# Altium footprint library PL04_22F.PcbLib: 63 footprints (part 2 of 4)
Each footprint in its own frame and in the unit in brackets; x right, y up, seen from the top. Pads: shape width x height; smd on the part's side, far side on the other; paste and mask are expansions set on the pad; w line width, h text height; cw(c..) or ccw(c..) is an arc to the next point about the centre after c.
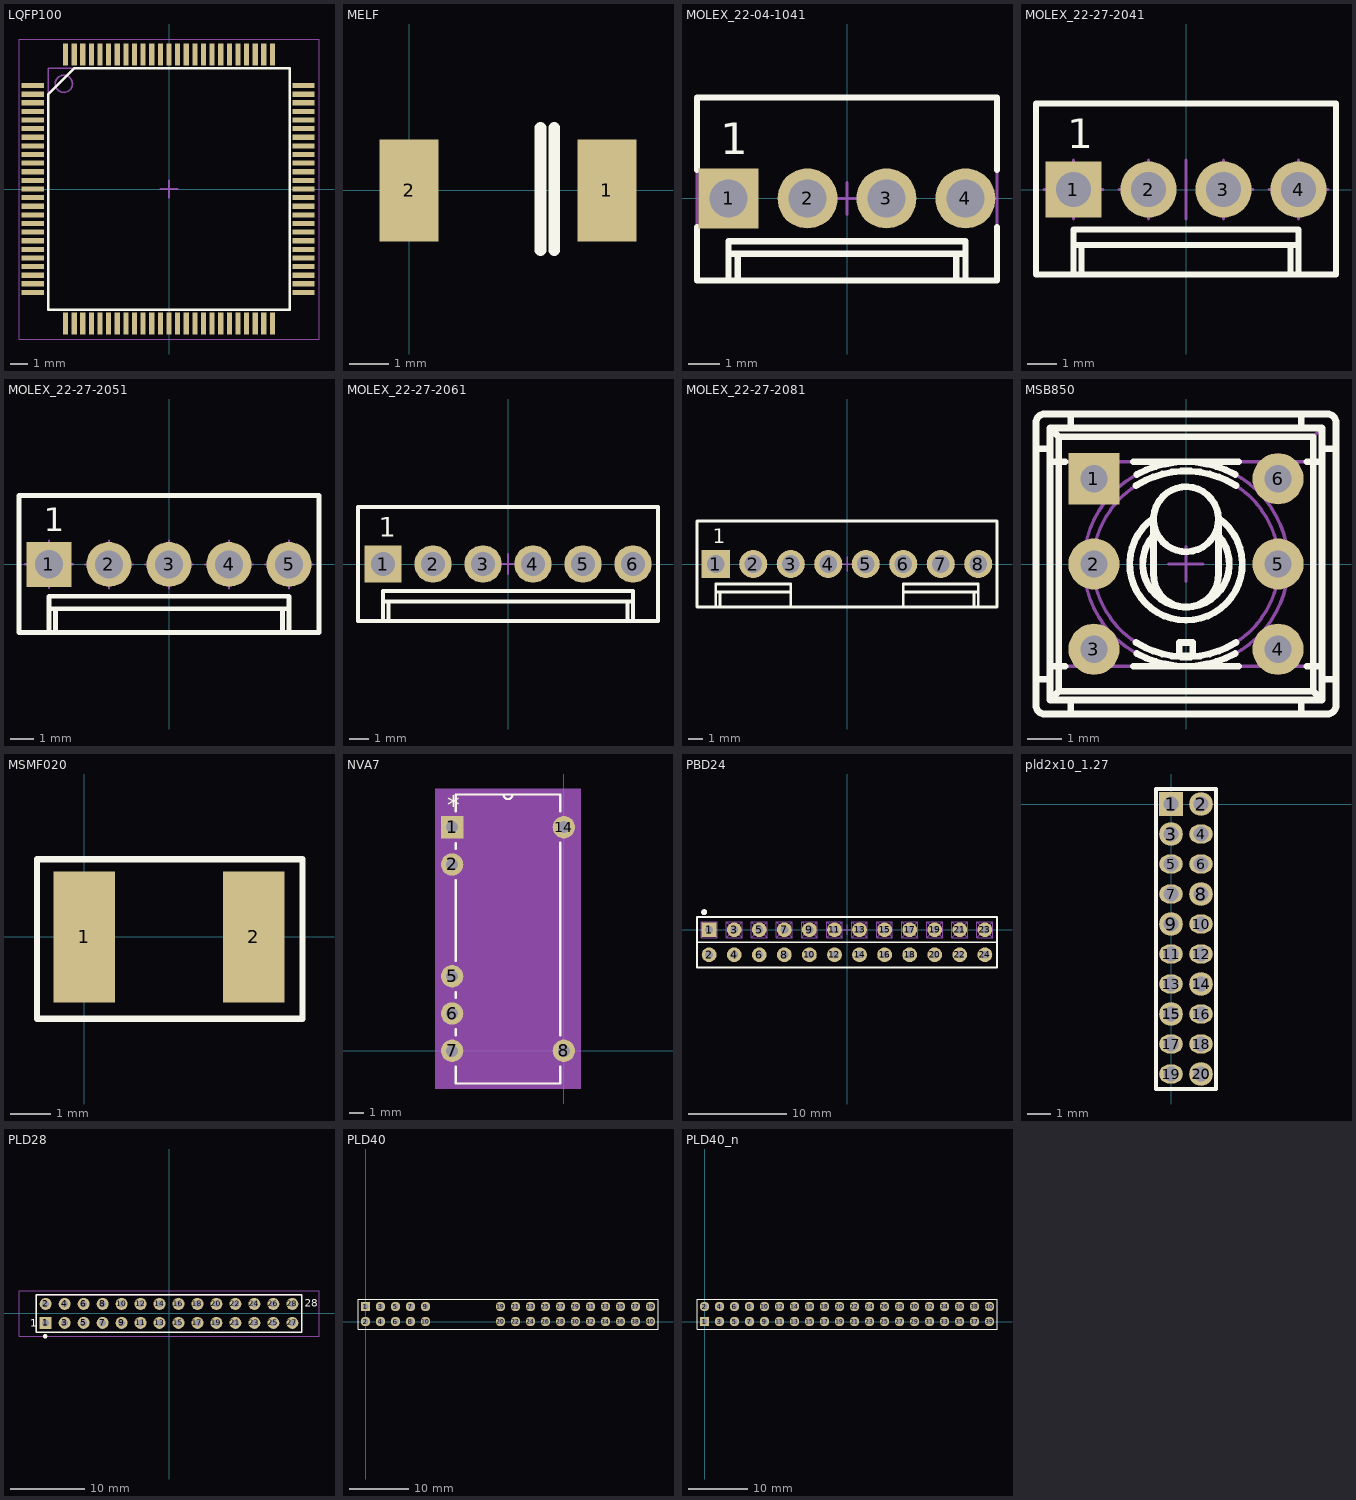
[diagram p1: the footprints below, top view; thin cyan lines are the x and y axes]

## LQFP100 [mm] "TSQFP, 100-Leads, Body 14,00x14,00mm, Pitch 0,50mm, IPC Medium Density"
height 1.6
pads (100):
  rect 1.3x0.3 smd: 1(-7.9,6) 2(-7.9,5.5) 3(-7.9,5) 4(-7.9,4.5) 5(-7.9,4) 6(-7.9,3.5) 7(-7.9,3) 8(-7.9,2.5) 9(-7.9,2) 10(-7.9,1.5) 11(-7.9,1) 12(-7.9,0.5) 13(-7.9,0) 14(-7.9,-0.5) 15(-7.9,-1) 16(-7.9,-1.5) 17(-7.9,-2) 18(-7.9,-2.5) 19(-7.9,-3) 20(-7.9,-3.5) 21(-7.9,-4) 22(-7.9,-4.5) 23(-7.9,-5) 24(-7.9,-5.5) 25(-7.9,-6) 51(7.8,-6) 52(7.8,-5.5) 53(7.8,-5) 54(7.8,-4.5) 55(7.8,-4) 56(7.8,-3.5) 57(7.8,-3) 58(7.8,-2.5) 59(7.8,-2) 60(7.8,-1.5) 61(7.8,-1) 62(7.8,-0.5) 63(7.8,0) 64(7.8,0.5) 65(7.8,1) 66(7.8,1.5) 67(7.8,2) 68(7.8,2.5) 69(7.8,3) 70(7.8,3.5) 71(7.8,4) 72(7.8,4.5) 73(7.8,5) 74(7.8,5.5) 75(7.8,6)
  rect 0.3x1.3 smd: 26(-6,-7.8) 27(-5.5,-7.8) 28(-5,-7.8) 29(-4.5,-7.8) 30(-4,-7.8) 31(-3.5,-7.8) 32(-3,-7.8) 33(-2.5,-7.8) 34(-2,-7.8) 35(-1.5,-7.8) 36(-1,-7.8) 37(-0.5,-7.8) 38(0,-7.8) 39(0.5,-7.8) 40(1,-7.8) 41(1.5,-7.8) 42(2,-7.8) 43(2.5,-7.8) 44(3,-7.8) 45(3.5,-7.8) 46(4,-7.8) 47(4.5,-7.8) 48(5,-7.8) 49(5.5,-7.8) 50(6,-7.8) 76(6,7.8) 77(5.5,7.8) 78(5,7.8) 79(4.5,7.8) 80(4,7.8) 81(3.5,7.8) 82(3,7.8) 83(2.5,7.8) 84(2,7.8) 85(1.5,7.8) 86(1,7.8) 87(0.5,7.8) 88(0,7.8) 89(-0.5,7.8) 90(-1,7.8) 91(-1.5,7.8) 92(-2,7.8) 93(-2.5,7.8) 94(-3,7.8) 95(-3.5,7.8) 96(-4,7.8) 97(-4.5,7.8) 98(-5,7.8) 99(-5.5,7.8) 100(-6,7.8)
Top Overlay:
  lines w0.15: -7,-7 -7,5.5 -5.5,7 7,7 7,-7 -7,-7
Mechanical 13:
  circle w0.1: c-6.1,6.1 r0.5
  lines w0.1: -7,-7 7,-7 7,7 -7,7 -7,-7
Mechanical 15:
  lines w0.05: -8.7,-8.7 8.7,-8.7 8.7,8.7 -8.7,8.7 -8.7,-8.7
  lines w0.1: -0.5,0 0.5,0 ; 0,-0.5 0,0.5
3D body: height 1.6, standoff 0.25, extent -7,-7 7,7

## MELF [mm]
pads (2):
  rect 1.5x2.6 smd: 1(5.04,0) 2(0,0)
Top Overlay:
  lines w0.3: 3.35,-1.525 3.35,1.6 ; 3.7,-1.525 3.7,1.6
3D body "DIOMELF5025N.stp": height 2.67, standoff 0, extent -0.08,-1.335 5.12,1.335

## MOLEX_22-04-1041 [mm] "2.5mm (.100\") Pitch KK® Header, Single Row, Vertical, 4 Circuits"
height 11.7
pads (4):
  rect 1.9x1.9 hole 1.2: 1(-3.75,0)
  round 1.9 hole 1.2: 2(-1.25,0) 3(1.25,0) 4(3.75,0)
Top Overlay:
  lines w0.2: -4.75,-0.907 -4.75,-2.6 4.75,-2.6 4.75,-0.907 ; -4.75,0.907 -4.75,3.2 4.75,3.2 4.75,0.907 ; -3.75,-2.6 -3.75,-1.35 3.75,-1.35 3.75,-2.6 ; -3.75,-1.75 3.75,-1.75 ; -3.459,-2.6 -3.459,-1.75 ; 3.459,-2.6 3.459,-1.75
  text "1" at -4.02,1.395 h1
Mechanical 8:
  lines w0.1: -4.25,0 -3.75,0 ; -3.75,-0.5 -3.75,0 ; -3.75,0.5 -3.75,0 ; -3.25,0 -3.75,0 ; -1.75,0 -1.25,0 ; -1.25,-0.5 -1.25,0 ; -1.25,0.5 -1.25,0 ; -0.75,0 -1.25,0 ; -0.5,0 0,0 ; 0,-0.5 0,0 ; 0,0.5 0,0 ; 0.5,0 0,0 ; 0.75,0 1.25,0 ; 1.25,-0.5 1.25,0 ; 1.25,0.5 1.25,0 ; 1.75,0 1.25,0 ; 3.25,0 3.75,0 ; 3.75,-0.5 3.75,0 ; 3.75,0.5 3.75,0 ; 4.25,0 3.75,0
Mechanical 14:
  lines w0.1: -3.75,-2.6 -3.75,-1.35 3.75,-1.35 3.75,-2.6 ; -3.75,-1.75 3.75,-1.75 ; -3.459,-2.6 -3.459,-1.75 ; 3.459,-2.6 3.459,-1.75 ; -4.75,-2.6 4.75,-2.6 4.75,3.2 -4.75,3.2 -4.75,-2.6
  text "1" at -4.02,1.395 h1
3D body "MOLEX_22-04-1041.stp": height 11.7, standoff -3.4, extent -4.75,-2.6 4.75,3.2

## MOLEX_22-27-2041 [mm] "2.54mm (.100\") Pitch KK® Header, Single Row, Vertical, 4 Circuits"
height 11.7
pads (4):
  rect 1.9x1.9 hole 1.2: 1(-3.81,0)
  round 1.9 hole 1.2: 2(-1.27,0) 3(1.27,0) 4(3.81,0)
Top Overlay:
  lines w0.2: -3.81,-2.883 -3.81,-1.353 3.81,-1.353 3.81,-2.883 ; -3.81,-1.883 3.81,-1.883 ; -3.537,-2.883 -3.537,-1.883 ; 3.537,-2.883 3.537,-1.883 ; -5.08,-2.883 5.08,-2.883 5.08,2.918 -5.08,2.918 -5.08,-2.883
  text "1" at -4.02,1.395 h1
Mechanical 8:
  lines w0.1: -4.81,0 -3.81,0 ; -3.81,-1 -3.81,0 ; -3.81,1 -3.81,0 ; -2.81,0 -3.81,0 ; -2.27,0 -1.27,0 ; -1.27,-1 -1.27,0 ; -1.27,1 -1.27,0 ; 0,-1 0,0 0,1 ; 1.27,-1 1.27,0 ; 1.27,1 1.27,0 ; 2.27,0 1.27,0 ; 2.81,0 3.81,0 ; 3.81,-1 3.81,0 ; 3.81,1 3.81,0 ; 4.81,0 3.81,0
Mechanical 14:
  lines w0.1: -3.81,-2.883 -3.81,-1.353 3.81,-1.353 3.81,-2.883 ; -3.81,-1.883 3.81,-1.883 ; -3.537,-2.883 -3.537,-1.883 ; 3.537,-2.883 3.537,-1.883 ; -5.08,-2.883 5.08,-2.883 5.08,2.918 -5.08,2.918 -5.08,-2.883 ; -4.13,-0.318 -4.13,0.318 -3.49,0.318 -3.49,-0.318 -4.13,-0.318 ; -1.59,-0.318 -1.59,0.318 -0.95,0.318 -0.95,-0.318 -1.59,-0.318 ; 0.95,-0.318 0.95,0.318 1.59,0.318 1.59,-0.318 0.95,-0.318 ; 3.49,-0.318 3.49,0.318 4.13,0.318 4.13,-0.318 3.49,-0.318
  text "1" at -4.02,1.395 h1
3D body "MOLEX_22-27-2041.stp": height 11.7, standoff -3.56, extent -5.08,-2.883 5.08,2.917

## MOLEX_22-27-2051 [mm] "2.54mm (.100\") Pitch KK® Header, Single Row, Vertical, 5 Circuits"
height 11.7
pads (5):
  rect 1.9x1.9 hole 1.2: 1(-5.08,0.005)
  round 1.9 hole 1.2: 2(-2.54,0) 3(0,0) 4(2.54,0) 5(5.08,0)
Top Overlay:
  lines w0.2: -5.08,-2.88 -5.08,-1.35 5.08,-1.35 5.08,-2.88 ; -5.08,-1.88 5.08,-1.88 ; -4.807,-2.88 -4.807,-1.88 ; 4.807,-2.88 4.807,-1.88 ; -6.35,-2.88 -6.35,2.92 6.35,2.92 6.35,-2.88 -6.35,-2.88
  text "1" at -5.3,1.4 h1
Mechanical 8:
  lines w0.1: -6.08,0.005 -5.08,0.005 ; -5.08,-0.995 -5.08,0.005 ; -5.08,1.005 -5.08,0.005 ; -4.08,0.005 -5.08,0.005 ; -3.54,0 -2.54,0 ; -2.54,-1 -2.54,0 ; -2.54,1 -2.54,0 ; -1.54,0 -2.54,0 ; -1,0 0,0 ; 0,-1 0,0 ; 0,1 0,0 ; 1,0 0,0 ; 1.54,0 2.54,0 ; 2.54,-1 2.54,0 ; 2.54,1 2.54,0 ; 3.54,0 2.54,0 ; 4.08,0 5.08,0 ; 5.08,-1 5.08,0 ; 5.08,1 5.08,0 ; 6.08,0 5.08,0
Mechanical 14:
  lines w0.1: -5.08,-2.88 -5.08,-1.35 5.08,-1.35 5.08,-2.88 ; -5.08,-1.88 5.08,-1.88 ; -4.807,-2.88 -4.807,-1.88 ; 4.807,-2.88 4.807,-1.88 ; -6.35,-2.88 -6.35,2.92 6.35,2.92 6.35,-2.88 -6.35,-2.88 ; -5.4,-0.315 -4.76,-0.315 -4.76,0.325 -5.4,0.325 -5.4,-0.315 ; -2.86,-0.32 -2.86,0.32 -2.22,0.32 -2.22,-0.32 -2.86,-0.32 ; -0.32,-0.32 0.32,-0.32 0.32,0.32 -0.32,0.32 -0.32,-0.32 ; 2.22,-0.32 2.86,-0.32 2.86,0.32 2.22,0.32 2.22,-0.32 ; 4.76,-0.32 5.4,-0.32 5.4,0.32 4.76,0.32 4.76,-0.32
  text "1" at -5.3,1.4 h1
3D body "MOLEX_22-27-2051.stp": height 11.7, standoff -3.56, extent -6.35,-2.88 6.35,2.92

## MOLEX_22-27-2061 [mm] "2.54mm (.100\") Pitch KK® Header, Single Row, Vertical, 6 Circuits"
height 11.7
pads (6):
  rect 1.9x1.9 hole 1.2: 1(-6.35,0)
  round 1.9 hole 1.2: 2(-3.81,0) 3(-1.27,0) 4(1.27,0) 5(3.81,0) 6(6.35,0)
Top Overlay:
  lines w0.2: -6.35,-2.9 -6.35,-1.37 6.35,-1.37 6.35,-2.9 ; -6.35,-1.9 6.35,-1.9 ; -6.077,-2.9 -6.077,-1.9 ; 6.077,-2.9 6.077,-1.9 ; -7.62,-2.9 -7.62,2.9 7.62,2.9 7.62,-2.9 -7.62,-2.9
  text "1" at -6.57,1.395 h1
Mechanical 8:
  lines w0.1: -6.85,0 -6.35,0 ; -6.35,-0.5 -6.35,0 ; -6.35,0.5 -6.35,0 ; -5.85,0 -6.35,0 ; -4.31,0 -3.81,0 ; -3.81,-0.5 -3.81,0 ; -3.81,0.5 -3.81,0 ; -3.31,0 -3.81,0 ; -1.77,0 -1.27,0 ; -1.27,-0.5 -1.27,0 ; -1.27,0.5 -1.27,0 ; -0.77,0 -1.27,0 ; -0.5,0 0,0 ; 0,-0.5 0,0 ; 0,0.5 0,0 ; 0.5,0 0,0 ; 0.77,0 1.27,0 ; 1.27,-0.5 1.27,0 ; 1.27,0.5 1.27,0 ; 1.77,0 1.27,0 ; 3.31,0 3.81,0 ; 3.81,-0.5 3.81,0 ; 3.81,0.5 3.81,0 ; 4.31,0 3.81,0 ; 5.85,0 6.35,0 ; 6.35,-0.5 6.35,0 ; 6.35,0.5 6.35,0 ; 6.85,0 6.35,0
Mechanical 14:
  lines w0.1: -6.35,-2.9 -6.35,-1.37 6.35,-1.37 6.35,-2.9 ; -6.35,-1.9 6.35,-1.9 ; -6.077,-2.9 -6.077,-1.9 ; 6.077,-2.9 6.077,-1.9 ; -7.62,-2.9 -7.62,2.9 7.62,2.9 7.62,-2.9 -7.62,-2.9 ; -6.67,-0.34 -6.03,-0.34 -6.03,0.3 -6.67,0.3 -6.67,-0.34 ; -4.13,-0.34 -4.13,0.3 -3.49,0.3 -3.49,-0.34 -4.13,-0.34 ; -1.59,-0.34 -0.95,-0.34 -0.95,0.3 -1.59,0.3 -1.59,-0.34 ; 0.95,-0.34 1.59,-0.34 1.59,0.3 0.95,0.3 0.95,-0.34 ; 3.49,-0.34 3.49,0.3 4.13,0.3 4.13,-0.34 3.49,-0.34 ; 6.03,-0.34 6.03,0.3 6.67,0.3 6.67,-0.34 6.03,-0.34
  text "1" at -6.57,1.395 h1
3D body "MOLEX_22-27-2061.stp": height 11.7, standoff -3.56, extent -7.62,-2.9 7.62,2.9

## MOLEX_22-27-2081 [mm] "2.54mm (.100\") Pitch KK® Header, Single Row, Vertical, 8 Circuits"
height 11.7
pads (8):
  rect 1.9x1.9 hole 1.2: 1(-8.89,0)
  round 1.9 hole 1.2: 2(-6.35,0) 3(-3.81,0) 4(-1.27,0) 5(1.27,0) 6(3.81,0) 7(6.35,0) 8(8.89,0)
Top Overlay:
  lines w0.2: -8.89,-2.9 -8.89,-1.37 -3.81,-1.37 -3.81,-2.9 ; -8.89,-1.9 -3.81,-1.9 ; -8.617,-2.9 -8.617,-1.9 ; 3.81,-2.9 3.81,-1.37 8.89,-1.37 8.89,-2.9 ; 3.81,-1.9 8.89,-1.9 ; 8.617,-2.9 8.617,-1.9 ; -10.16,-2.9 -10.16,2.9 10.16,2.9 10.16,-2.9 -10.16,-2.9
  text "1" at -9.11,1.395 h1
Mechanical 8:
  lines w0.1: -9.39,0 -8.89,0 ; -8.89,-0.5 -8.89,0 ; -8.89,0.5 -8.89,0 ; -8.39,0 -8.89,0 ; -6.85,0 -6.35,0 ; -6.35,-0.5 -6.35,0 ; -6.35,0.5 -6.35,0 ; -5.85,0 -6.35,0 ; -4.31,0 -3.81,0 ; -3.81,-0.5 -3.81,0 ; -3.81,0.5 -3.81,0 ; -3.31,0 -3.81,0 ; -1.77,0 -1.27,0 ; -1.27,-0.5 -1.27,0 ; -1.27,0.5 -1.27,0 ; -0.77,0 -1.27,0 ; -0.5,0 0,0 ; 0,-0.5 0,0 ; 0,0.5 0,0 ; 0.5,0 0,0 ; 0.77,0 1.27,0 ; 1.27,-0.5 1.27,0 ; 1.27,0.5 1.27,0 ; 1.77,0 1.27,0 ; 3.31,0 3.81,0 ; 3.81,-0.5 3.81,0 ; 3.81,0.5 3.81,0 ; 4.31,0 3.81,0 ; 5.85,0 6.35,0 ; 6.35,-0.5 6.35,0 ; 6.35,0.5 6.35,0 ; 6.85,0 6.35,0 ; 8.39,0 8.89,0 ; 8.89,-0.5 8.89,0 ; 8.89,0.5 8.89,0 ; 9.39,0 8.89,0
Mechanical 14:
  lines w0.1: -8.89,-2.9 -8.89,-1.37 -3.81,-1.37 -3.81,-2.9 ; -8.89,-1.9 -3.81,-1.9 ; -8.617,-2.9 -8.617,-1.9 ; 3.81,-2.9 3.81,-1.37 8.89,-1.37 8.89,-2.9 ; 3.81,-1.9 8.89,-1.9 ; 8.617,-2.9 8.617,-1.9 ; -10.16,-2.9 -10.16,2.9 10.16,2.9 10.16,-2.9 -10.16,-2.9 ; -9.21,-0.34 -8.57,-0.34 -8.57,0.3 -9.21,0.3 -9.21,-0.34 ; -6.67,-0.34 -6.67,0.3 -6.03,0.3 -6.03,-0.34 -6.67,-0.34 ; -4.13,-0.34 -3.49,-0.34 -3.49,0.3 -4.13,0.3 -4.13,-0.34 ; -1.59,-0.34 -0.95,-0.34 -0.95,0.3 -1.59,0.3 -1.59,-0.34 ; 0.95,-0.34 0.95,0.3 1.59,0.3 1.59,-0.34 0.95,-0.34 ; 3.49,-0.34 3.49,0.3 4.13,0.3 4.13,-0.34 3.49,-0.34 ; 6.03,-0.34 6.03,0.3 6.67,0.3 6.67,-0.34 6.03,-0.34 ; 8.57,-0.34 8.57,0.3 9.21,0.3 9.21,-0.34 8.57,-0.34
  text "1" at -9.11,1.395 h1
3D body "MOLEX_22-27-2081.stp": height 11.7, standoff -3.56, extent -10.16,-2.9 10.16,2.9

## MSB850 [mm] "Body 8.8x8.8mm, Straight PCB Mounting  SubminiatureToggle SPDT Switch"
height 19.4
pads (6):
  rect 1.5x1.5 hole 0.8: 1(-2.7,2.5)
  round 1.5 hole 0.8: 2(-2.7,0) 3(-2.7,-2.5) 4(2.7,-2.5) 5(2.7,0) 6(2.7,2.5)
Top Overlay:
  circle w0.2: c0,1.314 r0.953
  lines w0.2: -4.394,-3.378 -3.988,-3.378 ; -4.394,3.378 -3.988,3.378 ; -3.988,-2.997 -3.54,-2.997 ; -3.988,2.997 -3.54,2.997 ; -3.378,-4.394 -3.378,-3.988 ; -3.378,3.988 -3.378,4.394 ; -1.54,-2.997 1.54,-2.997 ; -1.54,2.997 1.54,2.997 ; -1.467,-2.299 ccw(c0,0) 1.467,-2.299 ; -1.467,2.299 cw(c0,0) 1.467,2.299 ; -1.443,-2.627 ccw(c0,0) 1.443,-2.627 ; -1.443,2.627 cw(c0,0) 1.443,2.627 ; -0.953,0.84 ccw(c0,0) 0.953,0.84 ; -0.953,1.314 -0.953,-0.286 ccw(c0,-0.309) 0.952,-0.286 0.953,1.314 ; -0.952,1.349 ccw(c0,0) 0.952,1.349 ; 3.378,-4.394 3.378,-3.988 ; 3.378,3.988 3.378,4.394 ; 3.54,-2.997 3.988,-2.997 ; 3.54,2.997 3.988,2.997 ; 3.988,-3.378 4.394,-3.378 ; 3.988,3.378 4.394,3.378 ; -3.988,-3.988 3.988,-3.988 ; -3.988,-3.988 -3.988,3.988 ; -3.988,-3.988 -3.734,-3.734 ; -3.988,3.988 3.988,3.988 3.988,-3.988 ; -3.988,3.988 -3.734,3.734 ; -3.734,-3.734 3.734,-3.734 ; -3.734,-3.734 -3.734,3.734 ; -3.734,3.734 3.734,3.734 3.734,-3.734 ; 3.734,-3.734 3.988,-3.988 ; -4.4,-4.146 ccw(c-4.146,-4.146) -4.146,-4.4 4.146,-4.4 ccw(c4.146,-4.146) 4.4,-4.146 4.4,4.146 ccw(c4.146,4.146) 4.146,4.4 -4.146,4.4 ccw(c-4.146,4.146) -4.4,4.146 -4.4,-4.146 ; -0.2,-2.7 0.2,-2.7 0.2,-2.3 -0.2,-2.3 -0.2,-2.7
Mechanical 8:
  lines w0.1: -3.04,-2.54 -2.54,-2.54 ; -3.04,0 -2.54,0 ; -3.04,2.54 -2.54,2.54 ; -2.54,-3.04 -2.54,-2.54 ; -2.54,-2.04 -2.54,-2.54 ; -2.54,-0.5 -2.54,0 ; -2.54,0.5 -2.54,0 ; -2.54,2.04 -2.54,2.54 ; -2.54,3.04 -2.54,2.54 ; -2.04,-2.54 -2.54,-2.54 ; -2.04,0 -2.54,0 ; -2.04,2.54 -2.54,2.54 ; -0.5,0 0,0 ; 0,-0.5 0,0 ; 0,0.5 0,0 ; 0.5,0 0,0 ; 2.04,-2.54 2.54,-2.54 ; 2.04,0 2.54,0 ; 2.04,2.54 2.54,2.54 ; 2.54,-3.04 2.54,-2.54 ; 2.54,-2.04 2.54,-2.54 ; 2.54,-0.5 2.54,0 ; 2.54,0.5 2.54,0 ; 2.54,2.04 2.54,2.54 ; 2.54,3.04 2.54,2.54 ; 3.04,-2.54 2.54,-2.54 ; 3.04,0 2.54,0 ; 3.04,2.54 2.54,2.54
Mechanical 14:
  circle w0.1: c0,0 r2.997
  circle w0.1: c0,1.314 r0.953
  circle w0.1: c0,0 r2.727
  lines w0.1: -4.394,-3.378 -3.988,-3.378 ; -4.394,3.378 -3.988,3.378 ; -3.988,-2.997 3.988,-2.997 ; -3.988,2.997 3.988,2.997 ; -3.378,-4.394 -3.378,-3.988 ; -3.378,3.988 -3.378,4.394 ; -0.953,0.84 ccw(c0,0) 0.953,0.84 ; -0.953,1.314 -0.953,-0.286 ccw(c0,-0.309) 0.952,-0.286 0.953,1.314 ; -0.952,1.349 ccw(c0,0) 0.952,1.349 ; 3.378,-4.394 3.378,-3.988 ; 3.378,3.988 3.378,4.394 ; 3.988,-3.378 4.394,-3.378 ; 3.988,3.378 4.394,3.378 ; -3.988,-3.988 3.988,-3.988 ; -3.988,-3.988 -3.988,3.988 ; -3.988,-3.988 -3.734,-3.734 ; -3.988,3.988 3.988,3.988 ; -3.988,3.988 -3.734,3.734 ; -3.734,-3.734 3.734,-3.734 ; -3.734,-3.734 -3.734,3.734 ; -3.734,3.734 3.734,3.734 ; 3.734,-3.734 3.734,3.734 ; 3.734,-3.734 3.988,-3.988 ; 3.734,3.734 3.988,3.988 ; 3.988,-3.988 3.988,3.988 ; -4.4,-4.146 ccw(c-4.146,-4.146) -4.146,-4.4 4.146,-4.4 ccw(c4.146,-4.146) 4.4,-4.146 4.4,4.146 ccw(c4.146,4.146) 4.146,4.4 -4.146,4.4 ccw(c-4.146,4.146) -4.4,4.146 -4.4,-4.146 ; -0.2,-2.7 -0.2,-2.3 0.2,-2.3 0.2,-2.7 -0.2,-2.7
3D body "SW_NKK_B12JJPC.stp": height 19.26, standoff -3.1, extent -4.394,-4.394 4.394,4.394

## MSMF020 [mm]
pads (2):
  rect 1.5x3.2 smd: 1(0,0) 2(4.14,0)
Top Overlay:
  lines w0.15: -1.16,-2 -1.16,1.9 5.34,1.9 5.34,-2 -1.16,-2
3D body "FUSR_BOURNS_MF-MSMF_STYLE2.stp": height 1.6, standoff 0, extent -0.295,-1.705 4.435,1.705

## NVA7 [mil]
pads (7):
  rect 60x60 hole 32: 1(-300,600)
  round 60 hole 32: 2(-300,500) 5(-300,200) 6(-300,100) 7(-300,0) 8(0,0) 14(0,600)
Top Overlay:
  lines w6: -290,-41.92 -290,-87.5 -10,-87.5 -10,-41.92 ; -290,41.92 -290,58.08 ; -290,141.92 -290,158.08 ; -290,241.92 -290,458.08 ; -290,541.92 -290,556.9 ; -290,643.1 -290,687.5 -10,687.5 -10,641.92 ; -162,687.5 ccw(c-150,687.5) -138,687.5 ; -10,41.92 -10,558.08
  text "*" at -312.5,635 h50
Mechanical 5:
  region: 45,-102.5 -345,-102.5 -345,702.5 45,702.5
Mechanical 13:
  lines w0: -162,687.5 ccw(c-150,687.5) -138,687.5
  lines w1: -316,-16 -290,-16 -290,16 -316,16 -316,-16 ; -316,84 -290,84 -290,116 -316,116 -316,84 ; -316,184 -290,184 -290,216 -316,216 -316,184 ; -316,284 -290,284 -290,316 -316,316 -316,284 ; -316,384 -290,384 -290,416 -316,416 -316,384 ; -316,484 -290,484 -290,516 -316,516 -316,484 ; -316,584 -290,584 -290,616 -316,616 -316,584 ; -290,-87.5 -290,687.5 -10,687.5 -10,-87.5 -290,-87.5 ; -10,-16 16,-16 16,16 -10,16 -10,-16 ; -10,84 16,84 16,116 -10,116 -10,84 ; -10,184 16,184 16,216 -10,216 -10,184 ; -10,284 16,284 16,316 -10,316 -10,284 ; -10,384 16,384 16,416 -10,416 -10,384 ; -10,484 16,484 16,516 -10,516 -10,484 ; -10,584 16,584 16,616 -10,616 -10,584
  text "*" at -312.5,635 h50
Mechanical 15:
  region: 40,-97.5 -340,-97.5 -340,697.5 40,697.5
  lines w6: -340,-97.5 -340,697.5 40,697.5 40,-97.5 -340,-97.5
3D body "NVA7.step": height 215.12, standoff -100, extent -305,-87.48 15,687.48

## PBD24 [mm] "2.54mm (.100\") Pitch, 24 Circuits  Dual Row  Top Entry Through Mount Receptacle"
height 7
pads (24):
  rect 1.5x1.5 hole 0.8: 1(-13.97,0)
  round 1.5 hole 0.8: 2(-13.97,-2.54) 3(-11.43,0) 4(-11.43,-2.54) 5(-8.89,0) 6(-8.89,-2.54) 7(-6.35,0) 8(-6.35,-2.54) 9(-3.81,0) 10(-3.81,-2.54) 11(-1.27,0) 12(-1.27,-2.54) 13(1.27,0) 14(1.27,-2.54) 15(3.81,0) 16(3.81,-2.54) 17(6.35,0) 18(6.35,-2.54) 19(8.89,0) 20(8.89,-2.54) 21(11.43,0) 22(11.43,-2.54) 23(13.97,0) 24(13.97,-2.54)
Top Overlay:
  circle w0.3: c-14.478,1.778 r0.15
  lines w0.2: -15.2,-1.27 -15.2,-3.81 15.2,-3.81 15.2,-1.27 ; -15.2,-1.27 15.2,-1.27 ; -15.2,-1.27 15.2,-1.27 ; -15.2,-1.27 -15.2,1.27 15.2,1.27 15.2,-1.27
Mechanical 8:
  lines w0.1: -14.47,0 -13.97,0 ; -13.97,-0.5 -13.97,0 ; -13.97,0.5 -13.97,0 ; -13.47,0 -13.97,0 ; -11.93,0 -11.43,0 ; -11.43,-0.5 -11.43,0 ; -11.43,0.5 -11.43,0 ; -10.93,0 -11.43,0 ; -9.39,0 -8.89,0 ; -8.89,-0.5 -8.89,0 ; -8.89,0.5 -8.89,0 ; -8.39,0 -8.89,0 ; -6.85,0 -6.35,0 ; -6.35,-0.5 -6.35,0 ; -6.35,0.5 -6.35,0 ; -5.85,0 -6.35,0 ; -4.31,0 -3.81,0 ; -3.81,-0.5 -3.81,0 ; -3.81,0.5 -3.81,0 ; -3.31,0 -3.81,0 ; -1.77,0 -1.27,0 ; -1.27,-0.5 -1.27,0 ; -1.27,0.5 -1.27,0 ; -0.77,0 -1.27,0 ; -0.5,0 0,0 ; 0,-0.5 0,0 ; 0,0.5 0,0 ; 0.5,0 0,0 ; 0.77,0 1.27,0 ; 1.27,-0.5 1.27,0 ; 1.27,0.5 1.27,0 ; 1.77,0 1.27,0 ; 3.31,0 3.81,0 ; 3.81,-0.5 3.81,0 ; 3.81,0.5 3.81,0 ; 4.31,0 3.81,0 ; 5.85,0 6.35,0 ; 6.35,-0.5 6.35,0 ; 6.35,0.5 6.35,0 ; 6.85,0 6.35,0 ; 8.39,0 8.89,0 ; 8.89,-0.5 8.89,0 ; 8.89,0.5 8.89,0 ; 9.39,0 8.89,0 ; 10.93,0 11.43,0 ; 11.43,-0.5 11.43,0 ; 11.43,0.5 11.43,0 ; 11.93,0 11.43,0 ; 13.47,0 13.97,0 ; 13.97,-0.5 13.97,0 ; 13.97,0.5 13.97,0 ; 14.47,0 13.97,0
Mechanical 14:
  circle w0.3: c-14.478,1.778 r0.15
  lines w0.1: -14.77,-0.8 -13.17,-0.8 ; -14.77,-0.8 -14.77,0.8 ; -14.77,-0.8 -14.47,-0.5 ; -14.77,0.8 -13.17,0.8 ; -14.77,0.8 -14.47,0.5 ; -14.47,-0.5 -14.47,0.5 ; -14.47,-0.5 -13.47,-0.5 ; -14.47,0.5 -13.47,0.5 ; -13.47,-0.5 -13.17,-0.8 ; -13.47,-0.5 -13.47,0.5 ; -13.47,0.5 -13.17,0.8 ; -13.17,-0.8 -13.17,0.8 ; -12.23,-0.8 -10.63,-0.8 ; -12.23,-0.8 -12.23,0.8 ; -12.23,-0.8 -11.93,-0.5 ; -12.23,0.8 -10.63,0.8 ; -12.23,0.8 -11.93,0.5 ; -11.93,-0.5 -11.93,0.5 ; -11.93,-0.5 -10.93,-0.5 ; -11.93,0.5 -10.93,0.5 ; -10.93,-0.5 -10.63,-0.8 ; -10.93,-0.5 -10.93,0.5 ; -10.93,0.5 -10.63,0.8 ; -10.63,-0.8 -10.63,0.8 ; -9.69,-0.8 -8.09,-0.8 ; -9.69,-0.8 -9.69,0.8 ; -9.69,-0.8 -9.39,-0.5 ; -9.69,0.8 -8.09,0.8 ; -9.69,0.8 -9.39,0.5 ; -9.39,-0.5 -9.39,0.5 ; -9.39,-0.5 -8.39,-0.5 ; -9.39,0.5 -8.39,0.5 ; -8.39,-0.5 -8.09,-0.8 ; -8.39,-0.5 -8.39,0.5 ; -8.39,0.5 -8.09,0.8 ; -8.09,-0.8 -8.09,0.8 ; -7.15,-0.8 -5.55,-0.8 ; -7.15,-0.8 -7.15,0.8 ; -7.15,-0.8 -6.85,-0.5 ; -7.15,0.8 -5.55,0.8 ; -7.15,0.8 -6.85,0.5 ; -6.85,-0.5 -6.85,0.5 ; -6.85,-0.5 -5.85,-0.5 ; -6.85,0.5 -5.85,0.5 ; -5.85,-0.5 -5.55,-0.8 ; -5.85,-0.5 -5.85,0.5 ; -5.85,0.5 -5.55,0.8 ; -5.55,-0.8 -5.55,0.8 ; -4.61,-0.8 -3.01,-0.8 ; -4.61,-0.8 -4.61,0.8 ; -4.61,-0.8 -4.31,-0.5 ; -4.61,0.8 -3.01,0.8 ; -4.61,0.8 -4.31,0.5 ; -4.31,-0.5 -4.31,0.5 ; -4.31,-0.5 -3.31,-0.5 ; -4.31,0.5 -3.31,0.5 ; -3.31,-0.5 -3.01,-0.8 ; -3.31,-0.5 -3.31,0.5 ; -3.31,0.5 -3.01,0.8 ; -3.01,-0.8 -3.01,0.8 ; -2.07,-0.8 -0.47,-0.8 ; -2.07,-0.8 -2.07,0.8 ; -2.07,-0.8 -1.77,-0.5 ; -2.07,0.8 -0.47,0.8 ; -2.07,0.8 -1.77,0.5 ; -1.77,-0.5 -1.77,0.5 ; -1.77,-0.5 -0.77,-0.5 ; -1.77,0.5 -0.77,0.5 ; -0.77,-0.5 -0.47,-0.8 ; -0.77,-0.5 -0.77,0.5 ; -0.77,0.5 -0.47,0.8 ; -0.47,-0.8 -0.47,0.8 ; 0.47,-0.8 2.07,-0.8 ; 0.47,-0.8 0.47,0.8 ; 0.47,-0.8 0.77,-0.5 ; 0.47,0.8 2.07,0.8 ; 0.47,0.8 0.77,0.5 ; 0.77,-0.5 0.77,0.5 ; 0.77,-0.5 1.77,-0.5 ; 0.77,0.5 1.77,0.5 ; 1.77,-0.5 2.07,-0.8 ; 1.77,-0.5 1.77,0.5 ; 1.77,0.5 2.07,0.8 ; 2.07,-0.8 2.07,0.8 ; 3.01,-0.8 4.61,-0.8 ; 3.01,-0.8 3.01,0.8 ; 3.01,-0.8 3.31,-0.5 ; 3.01,0.8 4.61,0.8 ; 3.01,0.8 3.31,0.5 ; 3.31,-0.5 3.31,0.5 ; 3.31,-0.5 4.31,-0.5 ; 3.31,0.5 4.31,0.5 ; 4.31,-0.5 4.61,-0.8 ; 4.31,-0.5 4.31,0.5 ; 4.31,0.5 4.61,0.8 ; 4.61,-0.8 4.61,0.8 ; 5.55,-0.8 7.15,-0.8 ; 5.55,-0.8 5.55,0.8 ; 5.55,-0.8 5.85,-0.5 ; 5.55,0.8 7.15,0.8 ; 5.55,0.8 5.85,0.5 ; 5.85,-0.5 5.85,0.5 ; 5.85,-0.5 6.85,-0.5 ; 5.85,0.5 6.85,0.5 ; 6.85,-0.5 7.15,-0.8 ; 6.85,-0.5 6.85,0.5 ; 6.85,0.5 7.15,0.8 ; 7.15,-0.8 7.15,0.8 ; 8.09,-0.8 9.69,-0.8 ; 8.09,-0.8 8.09,0.8 ; 8.09,-0.8 8.39,-0.5 ; 8.09,0.8 9.69,0.8 ; 8.09,0.8 8.39,0.5 ; 8.39,-0.5 8.39,0.5 ; 8.39,-0.5 9.39,-0.5 ; 8.39,0.5 9.39,0.5 ; 9.39,-0.5 9.69,-0.8 ; 9.39,-0.5 9.39,0.5 ; 9.39,0.5 9.69,0.8 ; 9.69,-0.8 9.69,0.8 ; 10.63,-0.8 12.23,-0.8 ; 10.63,-0.8 10.63,0.8 ; 10.63,-0.8 10.93,-0.5 ; 10.63,0.8 12.23,0.8 ; 10.63,0.8 10.93,0.5 ; 10.93,-0.5 10.93,0.5 ; 10.93,-0.5 11.93,-0.5 ; 10.93,0.5 11.93,0.5 ; 11.93,-0.5 12.23,-0.8 ; 11.93,-0.5 11.93,0.5 ; 11.93,0.5 12.23,0.8 ; 12.23,-0.8 12.23,0.8 ; 13.17,-0.8 14.77,-0.8 ; 13.17,-0.8 13.17,0.8 ; 13.17,-0.8 13.47,-0.5 ; 13.17,0.8 14.77,0.8 ; 13.17,0.8 13.47,0.5 ; 13.47,-0.5 13.47,0.5 ; 13.47,-0.5 14.47,-0.5 ; 13.47,0.5 14.47,0.5 ; 14.47,-0.5 14.77,-0.8 ; 14.47,-0.5 14.47,0.5 ; 14.47,0.5 14.77,0.8 ; 14.77,-0.8 14.77,0.8 ; -15.2,-1.27 -15.2,1.27 15.2,1.27 15.2,-1.27 -15.2,-1.27
3D body "FCI_76341-312LF.stp": height 7, standoff -2.96, extent -15.2,-3.81 15.2,-1.27
3D body "FCI_76341-312LF.stp": height 7, standoff -2.96, extent -15.2,-1.27 15.2,1.27

## PCBComponent_1 - duplicate [mm]

## pld2x10_1.27 [mm] "20 Contacts, Pitch 1.27mm - Horizontal, Dual Row Through Mount Right Angle Straight Header"
height 4.15
pads (20):
  rect 1x1 hole 0.65 mask+0.1: 1(0,0)
  round 1 hole 0.65 mask+0.1: 2(1.27,0) 3(0,-1.27) 8(1.27,-3.81) 9(0,-5.08) 14(1.27,-7.62) 15(0,-8.89) 20(1.27,-11.43)
  oval 1x0.8 / inner round 0 / far side round 1 hole 0.65 mask+0.1: 4(1.27,-1.27) 5(0,-2.54) 6(1.27,-2.54) 7(0,-3.81) 10(1.27,-5.08) 11(0,-6.35) 12(1.27,-6.35) 13(0,-7.62) 16(1.27,-8.89) 17(0,-10.16) 18(1.27,-10.16) 19(0,-11.43)
Top Overlay:
  lines w0.15: -0.635,-12.065 -0.635,0.635 1.905,0.635 1.905,-12.065 -0.635,-12.065
3D body "HARWIN_M50-3501042.stp": height 4, standoff -2.3, extent -1.065,-12.065 2.335,0.635

## PLD28 [mm] "28 Contacts - Pitch 2.54mm - Dual Row Straight Strip Header - Insulator 1.7mm"
height 8
pads (28):
  rect 1.6x1.6 hole 0.9: 1(-16.51,-1.27)
  round 1.6 hole 0.9: 2(-16.51,1.27) 3(-13.97,-1.27) 4(-13.97,1.27) 5(-11.43,-1.27) 6(-11.43,1.27) 7(-8.89,-1.27) 8(-8.89,1.27) 9(-6.35,-1.27) 10(-6.35,1.27) 11(-3.81,-1.27) 12(-3.81,1.27) 13(-1.27,-1.27) 14(-1.27,1.27) 15(1.27,-1.27) 16(1.27,1.27) 17(3.81,-1.27) 18(3.81,1.27) 19(6.35,-1.27) 20(6.35,1.27) 21(8.89,-1.27) 22(8.89,1.27) 23(11.43,-1.27) 24(11.43,1.27) 25(13.97,-1.27) 26(13.97,1.27) 27(16.51,-1.27) 28(16.51,1.27)
Top Overlay:
  circle w0.3: c-16.583,-3.048 r0.15
  lines w0.2: -17.78,-2.5 -17.78,2.5 17.78,2.5 17.78,-2.5 -17.78,-2.5
  text "1" at -18.542,-1.778 h1.02
  text "28" at 18.161,0.889 h1.02
Mechanical 8:
  lines w0.1: -20.07,-3.05 -20.07,3.05 20.07,3.05 20.07,-3.05 -20.07,-3.05
Mechanical 14:
  lines w0.1: -17.78,-2.5 -17.78,2.5 17.78,2.5 17.78,-2.5 -17.78,-2.5
3D body "COMATEL_389.0358.1.28.400.stp": height 8, standoff -3.2, extent -17.78,-3 17.78,2.5

## PLD40 [mm]
height 2
pads (40):
  rect 1.6x1.6 hole 1.1 mask+0.1: 1(0,2.54)
  round 1.6 hole 1.1 mask+0.1: 2(0,0) 3(2.54,2.54) 4(2.54,0) 5(5.08,2.54) 6(5.08,0) 7(7.62,2.54) 8(7.62,0) 9(10.16,2.54) 10(10.16,0) 19(22.86,2.54) 20(22.86,0) 21(25.4,2.54) 22(25.4,0) 23(27.94,2.54) 24(27.94,0) 25(30.48,2.54) 26(30.48,0) 27(33.02,2.54) 28(33.02,0) 29(35.56,2.54) 30(35.56,0) 31(38.1,2.54) 32(38.1,0) 33(40.64,2.54) 34(40.64,0) 35(43.18,2.54) 36(43.18,0) 37(45.72,2.54) 38(45.72,0) 39(48.26,2.54) 40(48.26,0)
  round 0 all layers, no hole mask+0.1: 11(12.7,0) 12(12.7,2.54) 13(15.24,0) 14(15.24,2.54) 15(17.78,0) 16(17.78,2.54) 17(20.32,0) 18(20.32,2.54)
Top Overlay:
  lines w0.15: -1.27,-1.27 -1.27,3.81 49.53,3.81 49.53,-1.27 -1.27,-1.27
3D body "SAMTEC_MTLW-110-07-L-D-250.stp": height 7.87, standoff -3.05, extent 21.59,-1.244 46.99,3.785
3D body "SAMTEC_MTLW-105-07-L-D-250.stp": height 7.87, standoff -3.05, extent -1.27,-1.244 11.43,3.785
3D body "TYCO_826629-2.stp": height 9.5, standoff -3.2, extent 47.01,-1.22 49.51,3.86

## PLD40_n [mm]
height 2.1
pads (40):
  rect 1.6x1.6 hole 1.1 mask+0.1: 1(0,0)
  round 1.6 hole 1.1 mask+0.1: 2(0,2.54) 3(2.54,0) 4(2.54,2.54) 5(5.08,0) 6(5.08,2.54) 7(7.62,0) 8(7.62,2.54) 9(10.16,0) 10(10.16,2.54) 11(12.7,0) 12(12.7,2.54) 13(15.24,0) 14(15.24,2.54) 15(17.78,0) 16(17.78,2.54) 17(20.32,0) 18(20.32,2.54) 19(22.86,0) 20(22.86,2.54) 21(25.4,0) 22(25.4,2.54) 23(27.94,0) 24(27.94,2.54) 25(30.48,0) 26(30.48,2.54) 27(33.02,0) 28(33.02,2.54) 29(35.56,0) 30(35.56,2.54) 31(38.1,0) 32(38.1,2.54) 33(40.64,0) 34(40.64,2.54) 35(43.18,0) 36(43.18,2.54) 37(45.72,0) 38(45.72,2.54) 39(48.26,0) 40(48.26,2.54)
Top Overlay:
  lines w0.1: -1.27,-1.27 49.53,-1.27 49.53,3.81 -1.27,3.81 -1.27,-1.27
3D body "SAMTEC_MTLW-110-07-L-D-250.stp": height 7.87, standoff -3.05, extent -1.27,-1.244 24.13,3.785
3D body "SAMTEC_MTLW-110-07-L-D-250.stp": height 7.87, standoff -3.05, extent 24.13,-1.244 49.53,3.785